# Altium schematic symbol library CornellBajaLibrary.SchLib: 122 symbols (part 2 of 2)
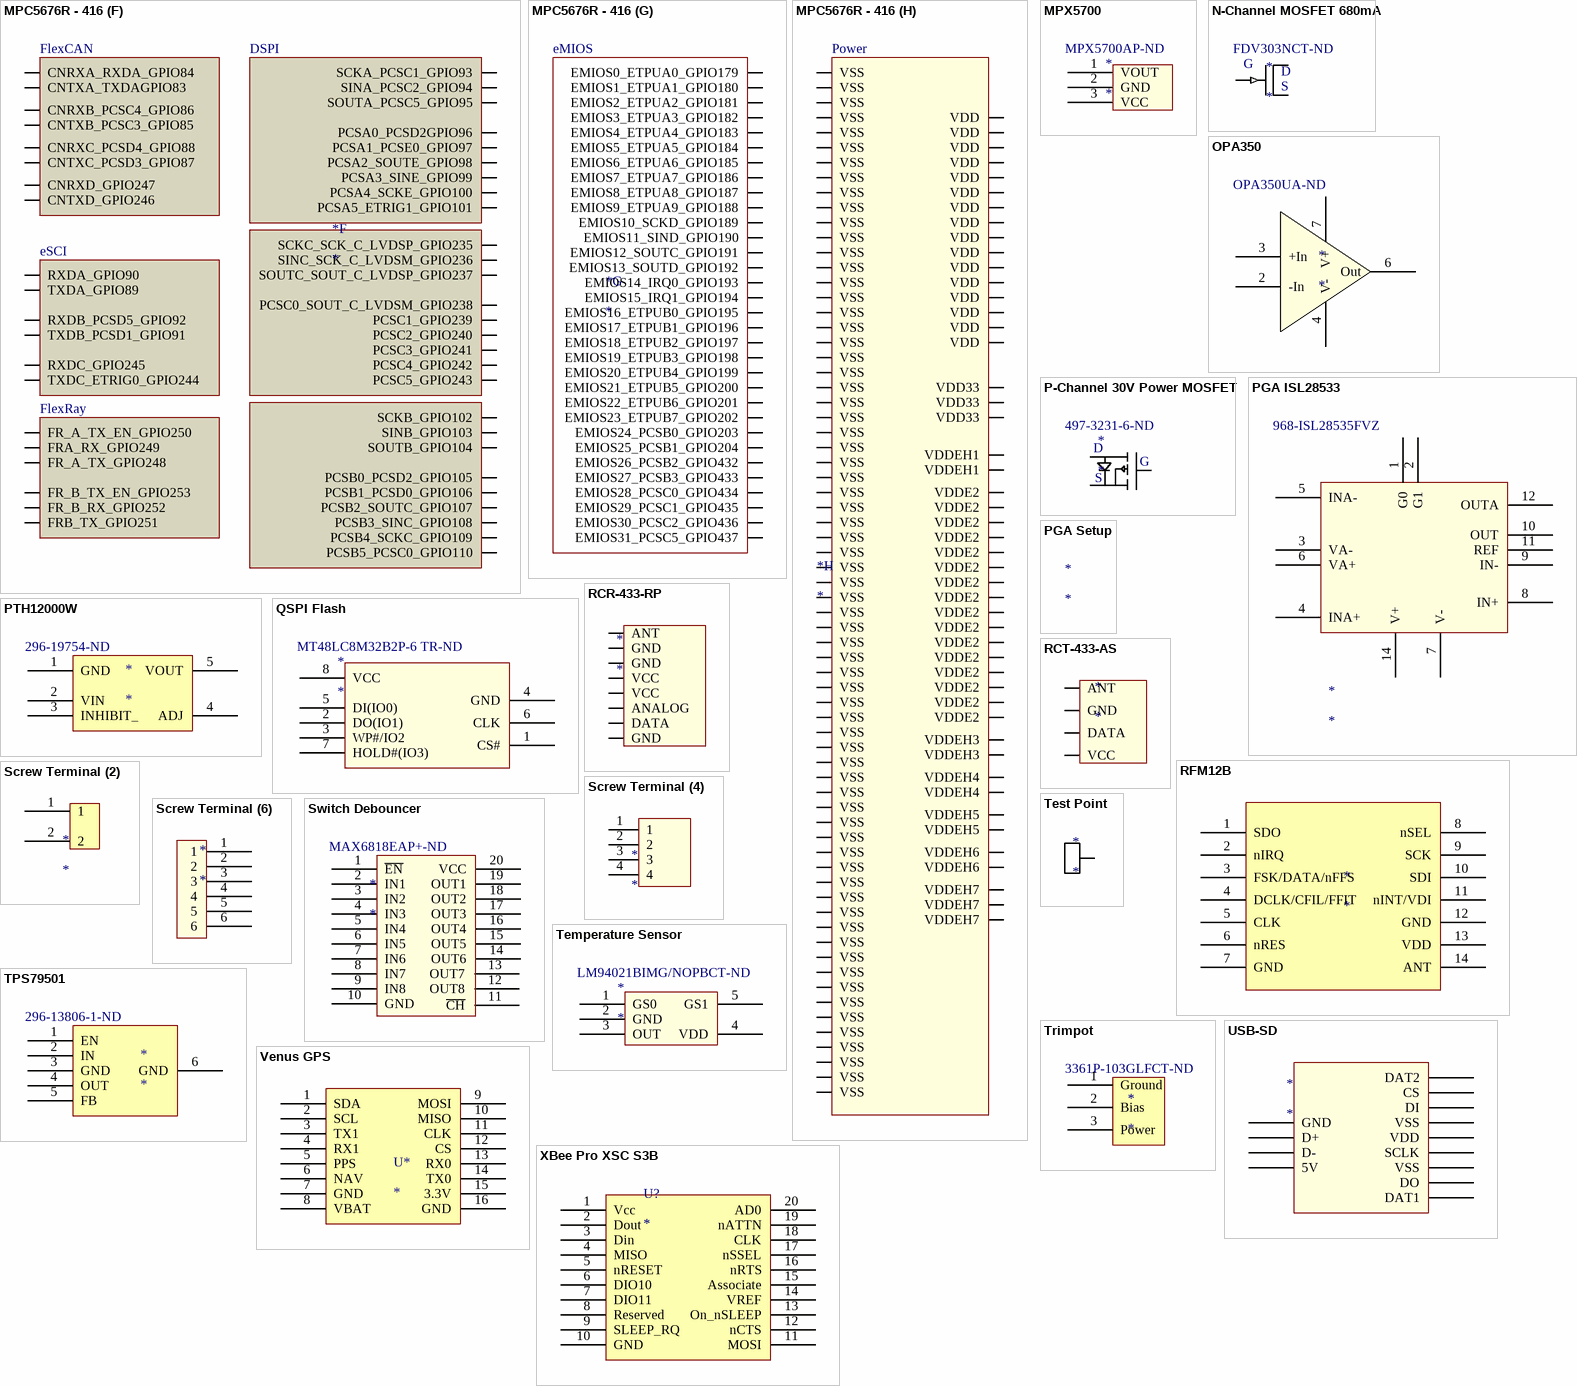
[diagram p10: symbols MPC5676R - 416 to XBee Pro XSC S3B]

## TPS79501
designator *  Supplier Part Number 1: 296-13806-1-ND
Low noise Adjustable LDO; Supplier 1: Digi-Key; ComponentLink1URL: http://www.ti.com/lit/ds/symlink/tps79501.pdf; ComponentLink1Description: http://www.ti.com/lit/ds/symlink/tps79501.pdf
footprint SOT127P706X180-6N (SOT223, 6-Leads, Body 6.6x7.3mm (max), Pitch 1.27mm, IPC Medium Density)
pins: 1 EN, 2 IN, 3 GND, 4 OUT, 5 FB, 6 GND

## Trimpot
designator *  Supplier Part Number 1: 3361P-103GLFCT-ND
Supplier 1: Digi-Key
footprint TrimPot
pins: 1 Ground, 2 Bias, 3 Power

## USB-SD
designator *
footprint SD-USB; pin to pad 5V>4 CS>6 D+>2 D->3 DAT1>13 DAT2>5 DI>7 DO>12 GND>1 SCLK>10 VDD>9 VSS>8
pins: 5V, CS, D+, D-, DAT1, DAT2, DI, DO, GND, SCLK, VDD, VSS, VSS

## Venus GPS
designator U*
Venus GPS Board from Sparkfun
footprint Venus GPS
pins: 1 SDA, 2 SCL, 3 TX1, 4 RX1, 5 PPS, 6 NAV, 7 GND, 8 VBAT, 9 MOSI, 10 MISO, 11 CLK, 12 CS, 13 RX0, 14 TX0, 15 3.3V, 16 GND

## XBee Pro XSC S3B
designator U?
footprint XBee Pro
pins: 1 Vcc, 2 Dout, 3 Din, 4 MISO, 5 nRESET, 6 DIO10, 7 DIO11, 8 Reserved, 9 SLEEP_RQ, 10 GND, 11 MOSI, 12 nCTS, 13 On_nSLEEP, 14 VREF, 15 Associate, 16 nRTS, 17 nSSEL, 18 CLK, 19 nATTN, 20 AD0